# EAGLE library part XMEGA_BREAKOUT (library AmandaEagleLibrary)
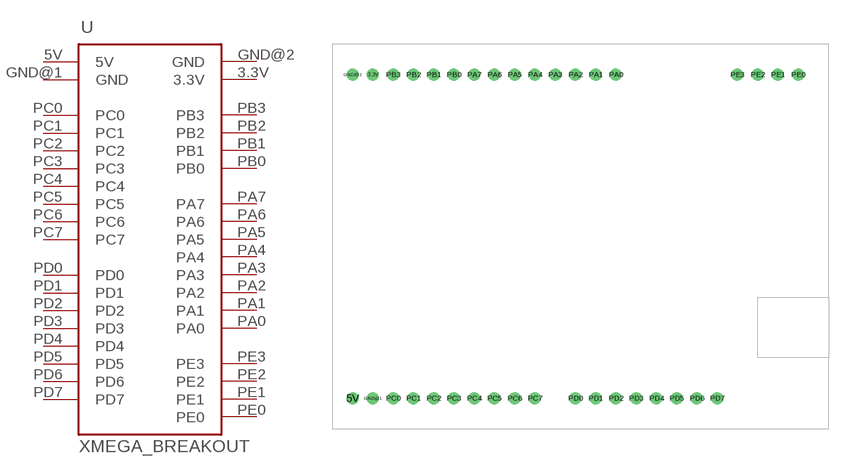
[diagram p1: symbol with the pads of XMEGA_BREAKOUT; footprint XMEGA_BREAKOUT]

Designator prefix -

## XMEGA_BREAKOUT-TH  [XMEGA_BREAKOUT]
3.3V  3.3V
5V  5V
GND@1  GND
GND@2  GND
PA0  PA0
PA1  PA1
PA2  PA2
PA3  PA3
PA4  PA4
PA5  PA5
PA6  PA6
PA7  PA7
PB0  PB0
PB1  PB1
PB2  PB2
PB3  PB3
PC0  PC0
PC1  PC1
PC2  PC2
PC3  PC3
PC4  PC4
PC5  PC5
PC6  PC6
PC7  PC7
PD0  PD0
PD1  PD1
PD2  PD2
PD3  PD3
PD4  PD4
PD5  PD5
PD6  PD6
PD7  PD7
PE0  PE0
PE1  PE1
PE2  PE2
PE3  PE3

## Footprint XMEGA_BREAKOUT (pad centres in mm)
drill 0.991: 3.3V 5.08,44.45; 5V 2.54,3.81; GND@1 5.08,3.81; GND@2 2.54,44.45; PA0 35.56,44.45; PA1 33.02,44.45; PA2 30.48,44.45; PA3 27.94,44.45; PA4 25.4,44.45; PA5 22.86,44.45; PA6 20.32,44.45; PA7 17.78,44.45; PB0 15.24,44.45; PB1 12.7,44.45; PB2 10.16,44.45; PB3 7.62,44.45; PC0 7.62,3.81; PC1 10.16,3.81; PC2 12.7,3.81; PC3 15.24,3.81; PC4 17.78,3.81; PC5 20.32,3.81; PC6 22.86,3.81; PC7 25.4,3.81; PD0 30.48,3.81; PD1 33.02,3.81; PD2 35.56,3.81; PD3 38.1,3.81; PD4 40.64,3.81; PD5 43.18,3.81; PD6 45.72,3.81; PD7 48.26,3.81; PE0 58.42,44.45; PE1 55.88,44.45; PE2 53.34,44.45; PE3 50.8,44.45